# Altium schematic symbol library AM1L-2405SH30-FZ.SchLib: 1 symbol
Pins are listed as number, name and electrical type; pins without a type are passive.

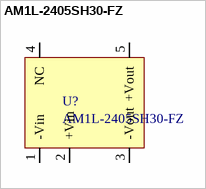
[diagram p0: symbol AM1L-2405SH30-FZ]

## AM1L-2405SH30-FZ
designator U?
AM1L-2405SH30-FZ, DC/DC преобразователь, 1 Вт, вход 21,6-26,4 В, выход 5 В/200 мА
footprint PCBComponent_1
pins: 1 -Vin, 2 +Vin, 3 -Vout, 4 NC, 5 +Vout